# Altium schematic symbol library 74CBTLV3257PW,118.SchLib: 1 symbol
Pins are listed as number, name and electrical type; pins without a type are passive.

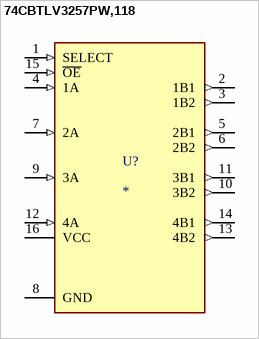
[diagram p0: symbol 74CBTLV3257PW,118]

## 74CBTLV3257PW,118
designator U?
Multiplexer/Demultiplexer 4 x 1:2 16-TSSOP; MF: Nexperia USA; MP: 74CBTLV3257PW,118; SnapEDA_Link: https://www.snapeda.com/parts/74CBTLV3257PW,118/Nexperia/view-part/?ref=snap; Package: TSSOP16-16 Nexperia USA Inc.; Value: *; Check_prices: https://www.snapeda.com/parts/74CBTLV3257PW,118/Nexperia/view-part/?ref=eda
footprint IC_74HC138PW-Q100,118
pins: 1 SELECT (in), 2 1B1 (out), 3 1B2 (out), 4 1A (in), 5 2B1 (out), 6 2B2 (out), 7 2A (in), 8 GND (power), 9 3A (in), 10 3B2 (out), 11 3B1 (out), 12 4A (in), 13 4B2 (out), 14 4B1 (out), 15 ~{OE} (in), 16 VCC (power)